# Altium footprint library SparkFun-Passives.PCBLIB: 100 footprints (part 2 of 7)
Each footprint in its own frame and in the unit in brackets; x right, y up, seen from the top. Pads: shape width x height; smd on the part's side, far side on the other; paste and mask are expansions set on the pad; w line width, h text height; cw(c..) or ccw(c..) is an arc to the next point about the centre after c.
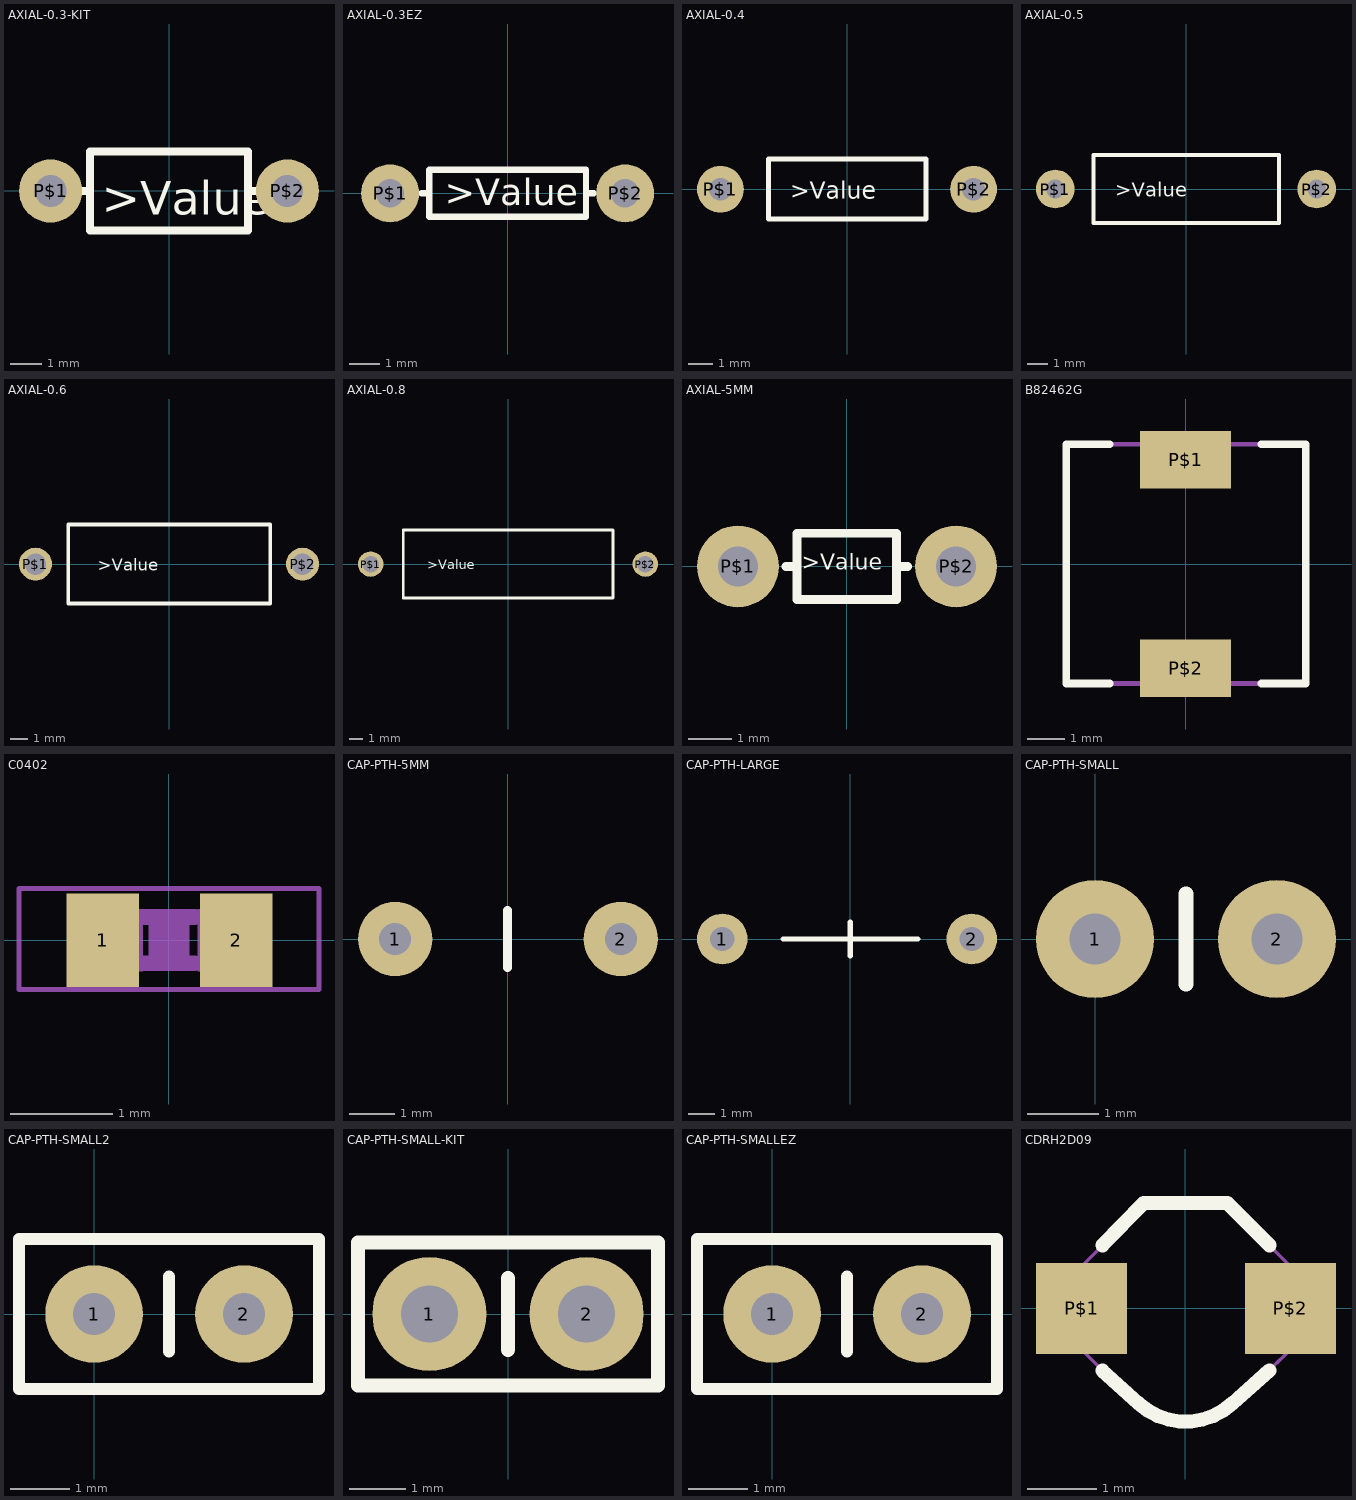
[diagram p1: the footprints below, top view; thin cyan lines are the x and y axes]

## AXIAL-0.3-KIT [mil]
pads (2):
  round 80 hole 40: P$1(-150,0) P$2(150,0)
Top Overlay:
  lines w10: -110,0 -100,0 ; 110,0 100,0 ; -100,0 -100,-50 100,-50 100,0 ; -100,0 -100,50 100,50 100,0
  text ">Value" at -85,-30 h42.5
Top Solder:
  region: 0,0 10,0 10,10 0,10
  region: 0,0 10,0 10,10 0,10
Bottom Solder:
  region: 0,0 10,0 10,10 0,10
  region: 0,0 10,0 10,10 0,10
Mechanical 2:
  text ">Name" at -100,50 h13.6

## AXIAL-0.3EZ [mil]
pads (2):
  round 74 hole 36: P$1(-150,0) P$2(150,0)
Top Overlay:
  lines w8: -110,0 -100,0 ; 110,0 100,0 ; -100,0 -100,-30 100,-30 100,0 ; -100,0 -100,30 100,30 100,0
  text ">Value" at -80,-15 h34
Top Solder:
  circle w0: c-150,0 r20
  circle w0: c150,0 r21
Bottom Solder:
  circle w0: c-150,0 r41
  circle w0: c150,0 r42
Mechanical 2:
  text ">Name" at -100,50 h13.6

## AXIAL-0.4 [mil]
pads (2):
  round 74 hole 36: P$1(-200,0) P$2(200,0)
Top Overlay:
  lines w8: -124.02,-47.24 -124.02,48 125,48 125,-47.24 -124.02,-47.24
  text ">Value" at -90,-15 h27.2
Mechanical 2:
  text ">Name" at -125,75 h27.2

## AXIAL-0.5 [mil]
pads (2):
  round 74 hole 36: P$1(-250,0) P$2(250,0)
Top Overlay:
  lines w8: -177.17,-64.96 -177.17,65 178,65 178,-64.96 -177.17,-64.96
  text ">Value" at -135,-15 h27.2
Mechanical 2:
  text ">Name" at -175,100 h27.2

## AXIAL-0.6 [mil]
pads (2):
  round 74 hole 48: P$1(-300,0) P$2(300,0)
Top Overlay:
  lines w8: -226.38,-88.58 -226.38,89 227,89 227,-88.58 -226.38,-88.58
  text ">Value" at -160,-15 h27.2
Mechanical 2:
  text ">Name" at -225,125 h27.2

## AXIAL-0.8 [mil]
pads (2):
  round 74 hole 48: P$1(-400,0) P$2(400,0)
Top Overlay:
  lines w8: -305.12,-98.43 -305.12,99 306,99 306,-98.43 -305.12,-98.43
  text ">Value" at -235,-15 h27.2
Mechanical 2:
  text ">Name" at -300,125 h27.2

## AXIAL-5MM [mil]
pads (2):
  round 74 hole 36: P$1(-98.43,0) P$2(99,0)
Top Overlay:
  lines w8: -54.88,0 -44.88,0 ; 55,0 45,0 ; -44.88,0 -44.88,-30 45,-30 45,0 ; -44.88,0 -44.88,30 45,30 45,0
  text ">Value" at -40.63,-8.19 h24.8
Mechanical 2:
  text ">Name" at -100,47 h24.8

## B82462G [mil]
pads (2):
  rect 95x60 smd: P$1(0,109) P$2(0,-108.27)
Top Overlay:
  lines w8: -78.74,-124.02 -124.02,-124.02 -124.02,125 -78.74,125 ; 79,-124.02 125,-124.02 125,125 79,125
Mechanical 16:
  lines w5: -124.02,-124.02 -124.02,125 125,125 125,-124.02 -124.02,-124.02

## C0402 [mil]
pads (2):
  rect 28x36 smd: 1(-25.59,0) 2(26,0)
Mechanical 2:
  text ">NAME" at -35,28 h24.8
Mechanical 4:
  text ">VALUE" at -42.5,-45 h24.8
Mechanical 6:
  rectangle: -7.87,-11.81 8,12
Mechanical 16:
  rectangle: -21.81,-12 -10,12
  rectangle: 11,-12 22,12
  lines w6: -9.65,-8.82 10,-8.82 ; -9.65,9 10,9
Mechanical 27:
  lines w2: -57.99,-19.02 58,-19.02 58,20 -57.99,20 -57.99,-19.02

## CAP-PTH-5MM [mil]
pads (2):
  round 65 hole 28: 1(-98.43,0) 2(99,0)
Top Overlay:
  lines w8: 0,-25 0,25
Mechanical 2:
  text ">Name" at -30,50 h24.8
Mechanical 4:
  text ">Value" at -40,-60 h24.8

## CAP-PTH-LARGE [mil]
pads (2):
  round 75 hole 36: 1(-190,0) 2(180,0)
Top Overlay:
  lines w8: -100,0 0,0 ; 0,-25 0,0 ; 0,25 0,0 ; 100,0 0,0
Mechanical 2:
  text ">Name" at -30,50 h24.8
Mechanical 4:
  text ">Value" at -40,-60 h24.8

## CAP-PTH-SMALL [mil]
pads (2):
  round 65 hole 28: 1(0,0) 2(100,0)
Top Overlay:
  lines w8: 50,-25 50,25
Mechanical 2:
  text ">Name" at 20,50 h24.8
Mechanical 4:
  text ">Value" at 10,-60 h24.8

## CAP-PTH-SMALL2 [mil]
pads (2):
  round 65 hole 28: 1(0,0) 2(100,0)
Top Overlay:
  lines w8: 50,-25 50,25 ; -50,-50 150,-50 150,50 -50,50 -50,-50
Mechanical 2:
  text ">Name" at -50,75 h37.2
Mechanical 4:
  text ">Value" at -50,-100 h37.2

## CAP-PTH-SMALL-KIT [mil]
pads (2):
  round 80 hole 40: 1(-55,0) 2(55,0)
Top Overlay:
  lines w10: 0,-25 0,25 ; -105,-50 105,-50 105,50 -105,50 -105,-50
Top Solder:
  region: 0,0 10,0 10,10 0,10
  region: 0,0 10,0 10,10 0,10
Bottom Solder:
  region: 0,0 10,0 10,10 0,10
  region: 0,0 10,0 10,10 0,10

## CAP-PTH-SMALLEZ [mil]
pads (2):
  round 65 hole 28: 1(0,0) 2(100,0)
Top Overlay:
  lines w8: 50,-25 50,25 ; -50,-50 150,-50 150,50 -50,50 -50,-50
Top Solder:
  circle w0: c0,0 r16
  circle w0: c100,0 r16
Bottom Solder:
  circle w0: c0,0 r36
  circle w0: c100,0 r37
Mechanical 2:
  text ">Name" at -50,75 h37.2
Mechanical 4:
  text ">Value" at -50,-100 h37.2

## CDRH2D09 [mil]
pads (2):
  rect 52x52 smd: P$1(-59.06,0) P$2(60,0)
Top Overlay:
  lines w8: -47.24,-35.43 -26.7,-54.09 ccw(c0.15,-25) 27,-54.09 48,-35.43 ; -47.24,36 -23.62,60 24,60 48,36
Mechanical 2:
  text ">NAME" at 111,28 h24.8
Mechanical 4:
  text ">VALUE" at 111,-39.37 h24.8
Mechanical 16:
  lines w2: -59.06,-23.62 -27.84,-54.84 ccw(c0.08,-26.92) 28,-54.84 60,-23.62 60,24 24,60 -23.62,60 -59.06,24 -59.06,-23.62